# Altium schematic symbol library ADXL344ACCZ-RL7.Schlib: 1 symbol
Pins are listed as number, name and electrical type; pins without a type are passive.

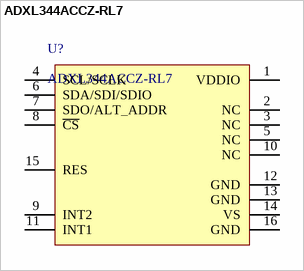
[diagram p0: symbol ADXL344ACCZ-RL7]

## ADXL344ACCZ-RL7
designator U?
Accelerometer X, Y, Z Axis ±2g, 4g, 8g, 16g 0.05Hz ~ 1.6kHz 16-LGA (3x3)
pins: 1 VDDIO, 2 NC, 3 NC, 4 SCL/SCLK, 5 NC, 6 SDA/SDI/SDIO, 7 SDO/ALT_ADDR, 8 ~{CS}, 9 INT2, 10 NC, 11 INT1, 12 GND, 13 GND, 14 VS, 15 RES, 16 GND